# EAGLE library part TDA7296 (library Audio-Power-amlifier V.2.0)
The TDA7296 is a monolithic integrated circuit in Multiwatt15 package, intended for use as audio class AB amplifier in Hi-Fi field applications (Home Stereo, self powered loudspeakers, Topclass TV). Thanks to the wide voltage range and to the high out current capability it is able to supply the highest power into both 4W and 8W loads even in presence of poor supply regulation, with high Supply Voltage Rejection. The built in muting function with turn on delay simplifies the remote operation avoiding switching on-off noises.
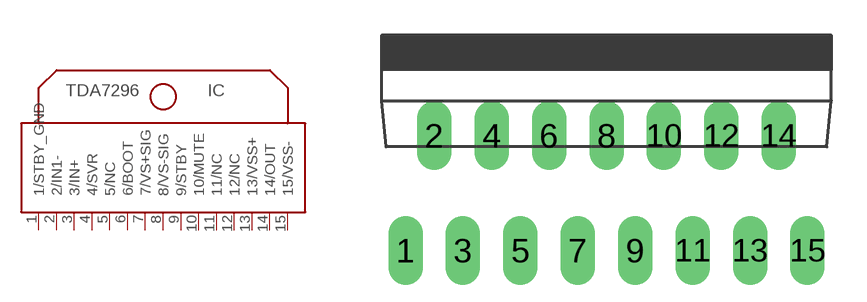
[diagram p161: symbol with the pads of MULTIWATT-15V; footprint MULTIWATT-15V]

Designator prefix IC

## TDA7296  [MULTIWATT-15V]
1  1/STBY_GND
2  2/IN1-  in
3  3/IN+  in
4  4/SVR  in
5  5/NC  nc
6  6/BOOT  in
7  7/VS+SIG  pwr
8  8/VS-SIG  pwr
9  9/STBY  in
10  10/MUTE  in
11  11/NC  nc
12  12/NC  nc
13  13/VSS+  pwr
14  14/OUT  out
15  15/VSS-  pwr

## Footprint MULTIWATT-15V (pad centres in mm)
Multiwatt 15 vertical
drill 1.016 long: 1 -8.89,-5.08; 2 -7.62,0; 3 -6.35,-5.08; 4 -5.08,0; 5 -3.81,-5.08; 6 -2.54,0; 7 -1.27,-5.08; 8 0,0; 9 1.27,-5.08; 10 2.54,0; 11 3.81,-5.08; 12 5.08,0; 13 6.35,-5.08; 14 7.62,0; 15 8.89,-5.08